# EAGLE library part FGPMMOPA6H (library clackboard_lib)
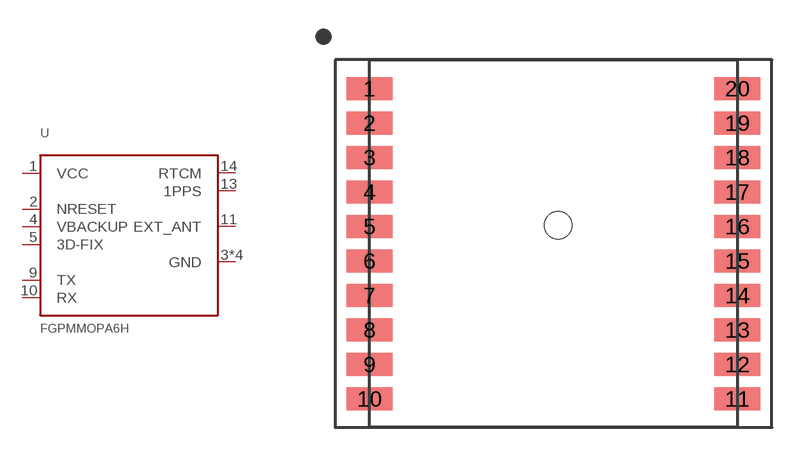
[diagram p5: symbol with the pads of FGPMMOPA6H; footprint FGPMMOPA6H]

Designator prefix U

## FGPMMOPA6H  [FGPMMOPA6H]
1  VCC
2  NRESET
3  GND
4  VBACKUP
5  3D-FIX
8  GND
9  TX
10  RX
11  EXT_ANT
12  GND
13  1PPS
14  RTCM
19  GND

## Footprint FGPMMOPA6H (pad centres in mm)
smd 2 x 1: 1 -8,6.75; 2 -8,5.25; 3 -8,3.75; 4 -8,2.25; 5 -8,0.75; 6 -8,-0.75; 7 -8,-2.25; 8 -8,-3.75; 9 -8,-5.25; 10 -8,-6.75; 11 8,-6.75; 12 8,-5.25; 13 8,-3.75; 14 8,-2.25; 15 8,-0.75; 16 8,0.75; 17 8,2.25; 18 8,3.75; 19 8,5.25; 20 8,6.75
hole 1.2 at 0.2,0.8